# Altium schematic symbol library 1432UD18R.Schlib: 1 symbol
Pins are listed as number, name and electrical type; pins without a type are passive.

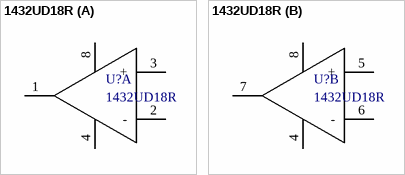
[diagram p0: symbol 1432UD18R]

## 1432UD18R
designator U?
Наименование: 1432УД18Р; Назначение: Операционный усилитель
footprint DIP-8
part A pins: 1 Vout, 2 -, 3 +, 4 Vss-, 8 Vss+
part B pins: 4 Vss-, 5 +, 6 -, 7 Vout, 8 Vss+